# EAGLE library part AK4125 (library akm)
Asynchronous Sample Rate Converter with PLL High Performance, 24-Bit, 192 kHz
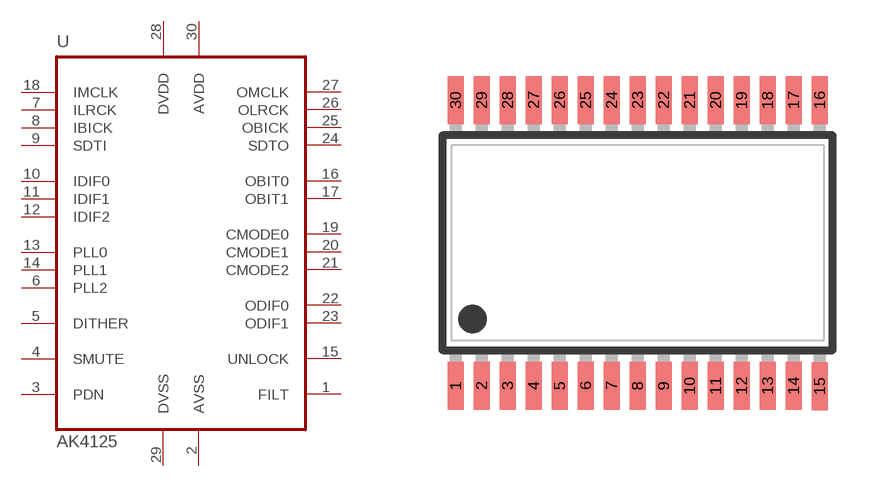
[diagram p12: symbol with the pads of VSOP30; footprint VSOP30]

Designator prefix U

## AK4125  [VSOP30]
1  FILT  out
2  AVSS  pwr
3  PDN  in
4  SMUTE  in
5  DITHER  in
6  PLL2  in
7  ILRCK
8  IBICK
9  SDTI  in
10  IDIF0  in
11  IDIF1  in
12  IDIF2  in
13  PLL0  in
14  PLL1  in
15  UNLOCK  out
16  OBIT0  in
17  OBIT1  in
18  IMCLK  in
19  CMODE0  in
20  CMODE1  in
21  CMODE2  in
22  ODIF0  in
23  ODIF1  in
24  SDTO  out
25  OBICK
26  OLRCK
27  OMCLK  in
28  DVDD  pwr
29  DVSS  pwr
30  AVDD  pwr

## Footprint VSOP30 (pad centres in mm)
VSOP30 9.7 x 5.6 mm, pitch .65 mm
smd 0.4 x 1.2: 1 -4.55,-3.57; 2 -3.9,-3.57; 3 -3.25,-3.57; 4 -2.6,-3.57; 5 -1.95,-3.57; 6 -1.3,-3.57; 7 -0.65,-3.57; 8 0,-3.57; 9 0.65,-3.57; 10 1.3,-3.57; 11 1.95,-3.57; 12 2.6,-3.57; 13 3.25,-3.57; 14 3.9,-3.57; 15 4.55,-3.58; 16 4.55,3.57; 17 3.9,3.57; 18 3.25,3.57; 19 2.6,3.57; 20 1.95,3.57; 21 1.3,3.57; 22 0.65,3.57; 23 0,3.57; 24 -0.65,3.57; 25 -1.3,3.57; 26 -1.95,3.57; 27 -2.6,3.57; 28 -3.25,3.57; 29 -3.9,3.57; 30 -4.55,3.57